# EAGLE library part AD5422R (library analog-devices)
Current Source and Voltage Output DACs Single Channel, 12-/16-Bit, Serial Input, HART Connectivity
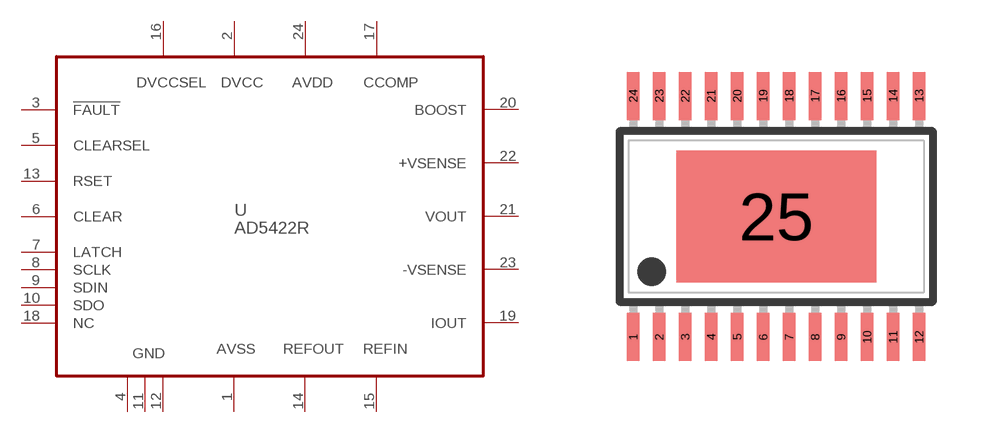
[diagram p68: symbol with the pads of TSSOP24_EP; footprint TSSOP24_EP]

Designator prefix U

## AD5422R  [TSSOP24_EP]
1  AVSS  pwr
2  DVCC  pwr
3  !FAULT!  oc
4  GND  pwr
5  CLEARSEL  in
6  CLEAR  in
7  LATCH  in
8  SCLK
9  SDIN  in
10  SDO  out
11  GND  pwr
12  GND  pwr
13  RSET
14  REFOUT  out
15  REFIN  in
16  DVCCSEL  pas
17  CCOMP  in
18  NC
19  IOUT  out
20  BOOST
21  VOUT  out
22  +VSENSE  in
23  -VSENSE  in
24  AVDD  pwr

## Footprint TSSOP24_EP (pad centres in mm)
Thin Shrink Small Outline Plastic 24 body 7.9 x 4.5 mm stop mask for exposed thermal ground underneath
smd 0.305 x 1.2: 1 -3.575,-3.018; 2 -2.925,-3.018; 3 -2.275,-3.018; 4 -1.625,-3.018; 5 -0.975,-3.018; 6 -0.325,-3.018; 7 0.325,-3.018; 8 0.975,-3.018; 9 1.625,-3.018; 10 2.275,-3.018; 11 2.925,-3.018; 12 3.575,-3.018; 13 3.575,3.018; 14 2.925,3.018; 15 2.275,3.018; 16 1.625,3.018; 17 0.975,3.018; 18 0.325,3.018; 19 -0.325,3.018; 20 -0.975,3.018; 21 -1.625,3.018; 22 -2.275,3.018; 23 -2.925,3.018; 24 -3.575,3.018
smd 5 x 3.3: 25 0,0